# Altium schematic symbol library CBC2518T100M.SchLib: 1 symbol
Pins are listed as number, name and electrical type; pins without a type are passive.

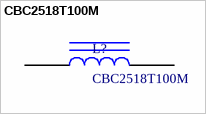
[diagram p0: symbol CBC2518T100M]

## CBC2518T100M
designator L?
10 uH inductor, Taiyo Yuden
footprint INDC2518X20N (Chip Inductor, 2-Leads, Body 2.50x1.80mm, IPC Medium Density)
pins: 1, 2